# Altium schematic symbol library 5-146280-5.SchLib: 1 symbol
Pins are listed as number, name and electrical type; pins without a type are passive.

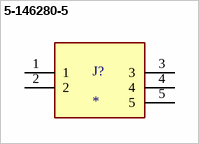
[diagram p0: symbol 5-146280-5]

## 5-146280-5
designator J?
05 MODII HDR SRST B/A .100CL; MP: 5-146280-5; Package: None; Value: *; Price: None; Availability: Unavailable
footprint TE_5-146280-5
pins: 1, 2, 3, 4, 5